# Altium footprint library TI-6-WSON-1.5x1.5.PcbLib: 1 footprints
Each footprint in its own frame and in the unit in brackets; x right, y up, seen from the top. Pads: shape width x height; smd on the part's side, far side on the other; paste and mask are expansions set on the pad; w line width, h text height; cw(c..) or ccw(c..) is an arc to the next point about the centre after c.
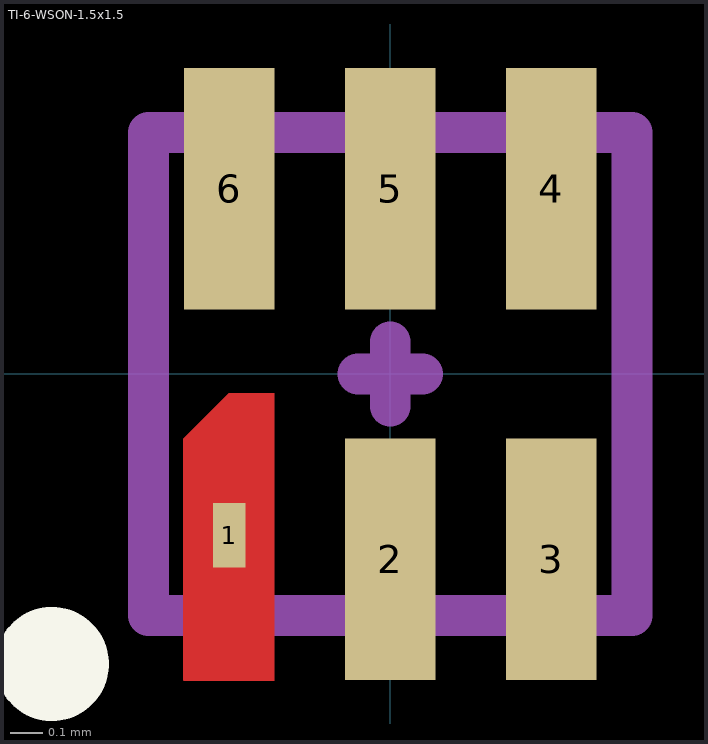
[diagram p0: the footprint, top view; thin cyan lines are the x and y axes]

## TI-6-WSON-1.5x1.5 [mm]
pads (6):
  rect 0.1x0.2 smd mask+0.051: 1(-0.5,-0.5)
  rect 0.28x0.75 smd mask+0.051: 2(0,-0.575) 3(0.5,-0.575) 4(0.5,0.575) 5(0,0.575) 6(-0.5,0.575)
Top Layer:
  region: -0.64,-0.95 -0.36,-0.95 -0.36,-0.06 -0.5,-0.06 -0.64,-0.2
  lines w0.003: -0.64,-0.95 -0.64,-0.95 ; -0.64,-0.95 -0.64,-0.2 -0.5,-0.06 -0.36,-0.06 ; -0.64,-0.95 -0.36,-0.95 ; -0.36,-0.95 -0.36,-0.06 ; -0.36,-0.95 -0.36,-0.95 ; -0.36,-0.06 -0.36,-0.06
Top Overlay:
  circle w0.254: c-1.05,-0.9 r0.05
Mechanical 13 (Mech13):
  lines w0.127: -0.75,-0.75 0.75,-0.75 0.75,0.75 -0.75,0.75 -0.75,-0.75
Mechanical 15:
  lines w0.127: -0.1,0 0,0 ; 0,-0.1 0,0 ; 0,0.1 0,0 ; 0.1,0 0,0
3D body "DSE0006A.stp": height 0.77, standoff -0.03, extent -0.75,-0.75 0.75,0.75